# Altium schematic symbol library CRCW080547K5FKEA.SchLib: 1 symbol
Pins are listed as number, name and electrical type; pins without a type are passive.

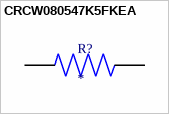
[diagram p0: symbol CRCW080547K5FKEA]

## CRCW080547K5FKEA
designator R?
47.5 kOhms Â±1% 0.125W, 1/8W Chip Resistor 0805 (2012 Metric) Automotive AEC-Q200 Thick Film; MP: CRCW080547K5FKEA; MF: Vishay Dale; Price: None; Availability: Warning; Package: 2012 Vishay; Value: *; SnapEDA_Link: https://www.snapeda.com/parts/CRCW080547K5FKEA/Vishay%20Dale/view-part/53458/?ref=snap; Check_prices: https://www.snapeda.com/parts/CRCW080547K5FKEA/Vishay%20Dale/view-part/53458/?ref=eda; Purchase-URL: https://pricing.snapeda.com/search/part/CRCW080547K5FKEA/?ref=eda
footprint RESC2012X50N
pins: 1, 2